# Altium footprint library 8-8控制板1.PcbLib: 26 footprints (part 1 of 2)
Each footprint in its own frame and in the unit in brackets; x right, y up, seen from the top. Pads: shape width x height; smd on the part's side, far side on the other; paste and mask are expansions set on the pad; w line width, h text height; cw(c..) or ccw(c..) is an arc to the next point about the centre after c.
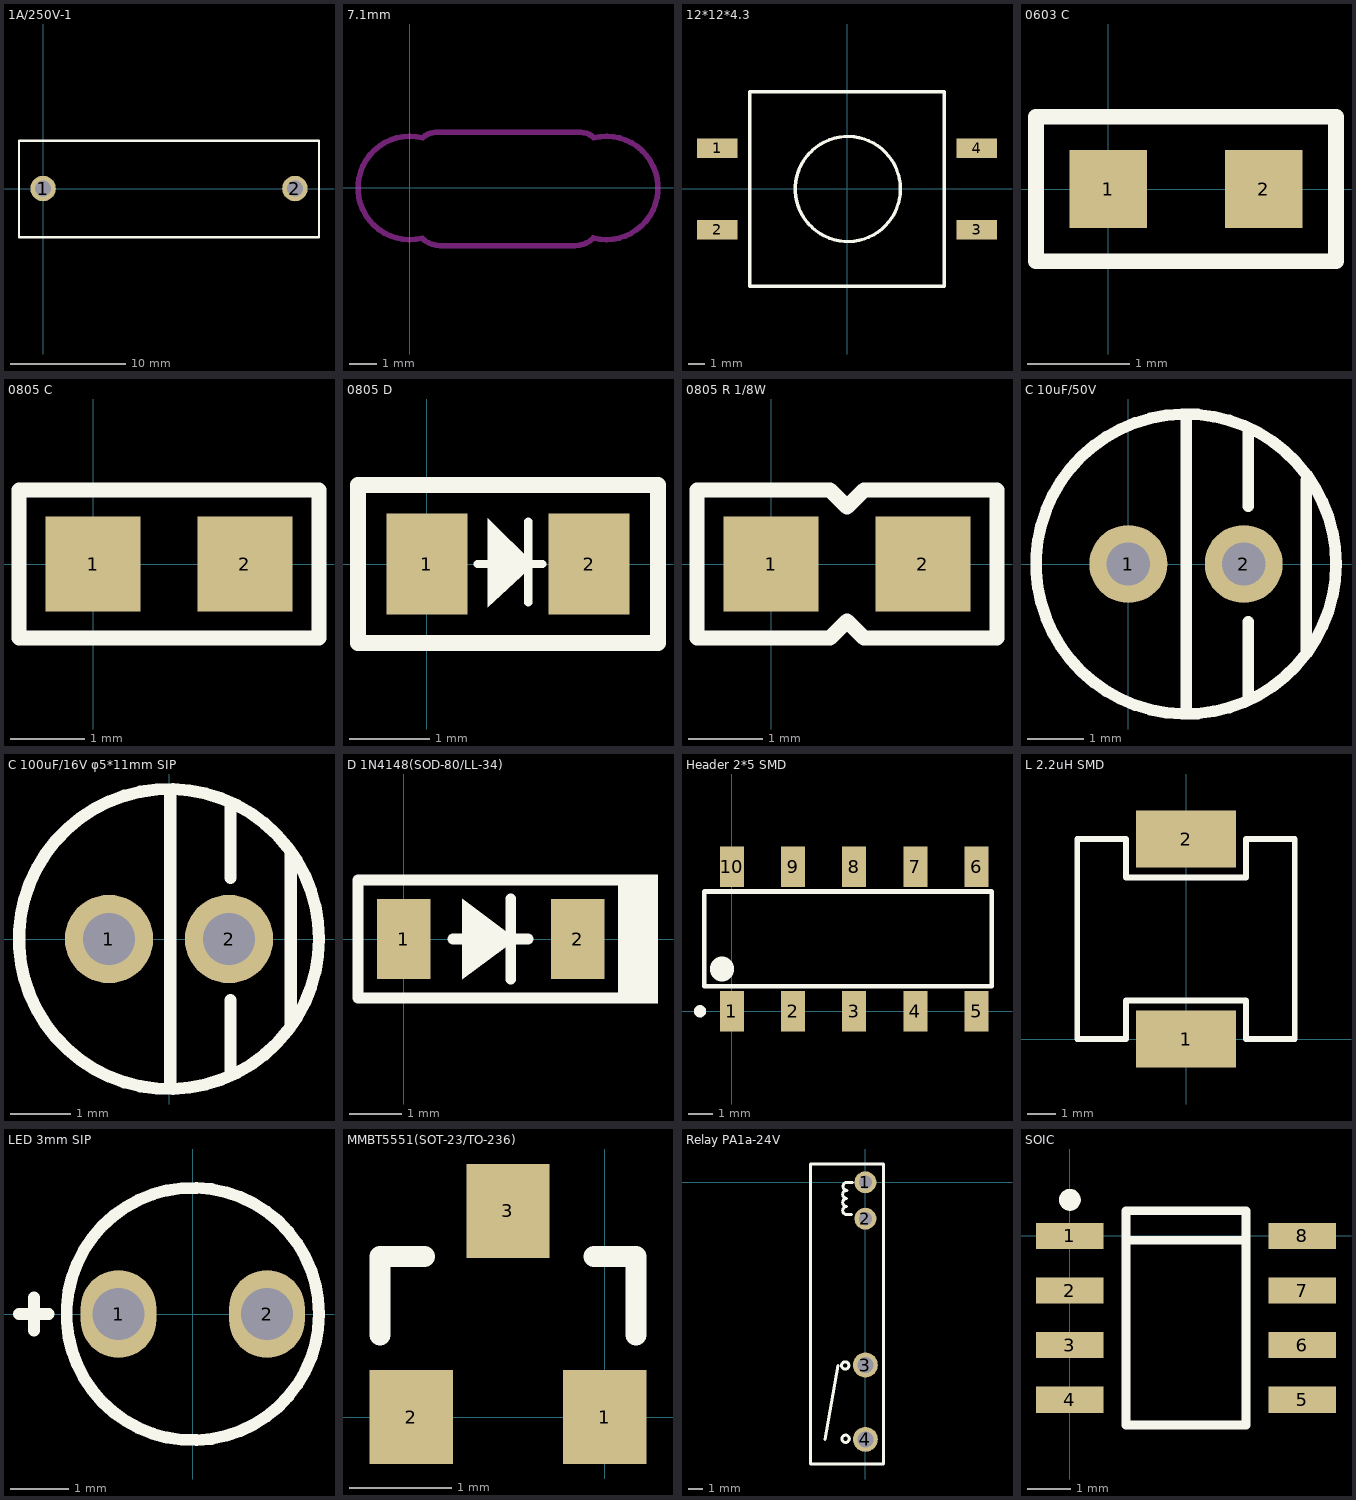
[diagram p0: the footprints below, top view; thin cyan lines are the x and y axes]

## 1A/250V-1 [mil]
pads (2):
  round 87 hole 55: 1(0,0) 2(858,0)
Top Overlay:
  lines w8: -82,-166 -82,163 940,163 940,-166 -82,-166

## 7.1mm [mm]
pads (2):
  round 0 all layers, no hole: 1(0,0) 1(7.1,0)
Keep-Out Layer:
  lines w0.2: 2.019,2.007 2.452,2.007 0.946,2.007 ccw(c0.946,1.327) 0.466,1.808 ccw(c0,0) 0.447,-1.812 ccw(c1.101,-1.159) 1.101,-2.083 2.198,-2.083 5.297,-2.083 ; 2.122,2.007 5.297,2.007 5.449,2.007 ; 2.168,-2.083 2.731,-2.083 ; 4.496,2.007 6.183,2.007 cw(c6.183,1.343) 6.653,1.812 cw(c7.1,0) 6.634,-1.808 cw(c5.97,-1.143) 5.97,-2.083 4.865,-2.083 5.159,-2.083 ; 5.017,2.007 5.331,2.007

## 12*12*4.3 [mm]
pads (4):
  rect 2.5x1.2 smd: 1(-8,2.5) 2(-8,-2.5) 3(8,-2.5) 4(8,2.5)
Top Overlay:
  circle w0.203: c0.051,0 r3.24
  lines w0.2: -5.425,6 5.436,6 6,6 6,-6 ; -5.359,6 -6.014,6 -6,5.986 -6,5.715 -6,-6 5.994,-6

## 0603 C [mil]
pads (2):
  rect 30x30 smd: 1(0,0) 2(60,0)
Top Overlay:
  lines w6: -28,-28 -28,28 88,28 88,-28 -28,-28

## 0805 C [mil]
pads (2):
  rect 50x50 smd: 1(0,0) 2(80,0)
Top Overlay:
  lines w8: -39,-39 -39,39 119,39 119,-39 -39,-39

## 0805 D [mil]
pads (2):
  rect 40x50 smd: 1(0,0) 2(80,0)
Top Overlay:
  region: 30,22.5 53,0 30,-21.38
  lines w4: 25,0 57,0 ; 50,-19 50,21
  lines w8: -34,-39 -34,39 114,39 114,-39 -34,-39

## 0805 R 1/8W [mil]
pads (2):
  rect 50x50 smd: 1(0,0) 2(80,0)
Top Overlay:
  lines w8: -39,-39 -39,39 31,39 40,30 49,39 119,39 119,-39 49,-39 40,-30 31,-39 -39,-39

## C 10uF/50V [mil]
pads (2):
  round 54 hole 30: 1(0,0) 2(80,0)
Top Overlay:
  circle w8: c40,0 r104
  lines w8: 40.24,-103 40.24,103 ; 83,-94 83,-40 ; 83,40 83,94 ; 123.24,-61 123.24,58

## C 100uF/16V φ5*11mm SIP [mil]
pads (2):
  round 58 hole 34: 1(-39.37,0) 2(39.37,0)
Top Overlay:
  circle w8: c0,0 r98.43
  lines w8: 0.87,-98 0.87,98 ; 40.37,-89 40.37,-40 ; 40.37,40 40.37,88 ; 79.87,-56 79.87,57

## D 1N4148(SOD-80/LL-34) [mil]
pads (2):
  rect 40x60 smd: 1(0,0) 2(130,0)
Top Overlay:
  rectangle: 160,-48 190,48
  region: 44,30 84,0 44,-30
  lines w8: 37,0 48,0 ; 80,-30 80,30 ; 80,0 93,0 ; -34,-44 164,-44 164,44 -34,44 -34,-44

## Header 2*5 SMD [mm]
pads (10):
  rect 1x1.7 smd: 1(0,0) 2(2.54,0) 3(5.08,0) 4(7.62,0) 5(10.16,0) 6(10.16,6) 7(7.62,6) 8(5.08,6) 9(2.54,6) 10(0,6)
Top Overlay:
  circle w0.254: c-1.321,0 r0.127
  lines w0.2: -1.15,1.041 -1.15,4.978 10.795,4.978 10.795,1.041 -1.15,1.041
  lines w1: -0.406,1.73 -0.406,1.781

## L 2.2uH SMD [mil]
pads (2):
  rect 138x78 smd: 1(0,0) 2(0,276)
Top Overlay:
  lines w8: -150,0 -83,0 -83,53 83,53 83,-0.02 150,-0.02 150,276 83,276 83,223 -83,223 -83,276 -150,276 -150,0

## LED 3mm SIP [mil]
pads (2):
  oval 51x59 hole 35: 1(-50,0) 2(50,0)
Top Overlay:
  circle w8: c0,0 r85
  lines w8: -117,0 -97,0 ; -107,-11 -107,11

## MMBT5551(SOT-23/TO-236) [mil]
pads (3):
  rect 32x36 smd: 1(0,0) 2(-74,0) 3(-37,79)
Top Overlay:
  lines w8: -86,31.52 -86,61.52 -69,61.52 ; -4,61.52 12,61.52 12,31.52

## Relay PA1a-24V [mil]
pads (4):
  round 60 hole 36: 1(0,0) 2(0,-99.21)
  round 68 hole 44: 3(0,-498.82) 4(0,-701.57)
Top Overlay:
  circle w8: c-55,-500 r10.05
  circle w8: c-54,-700 r10.05
  lines w8: -110,-702 -75,-500 ; -51,-22 ccw(c-51,-33) -62,-33 ccw(c-51,-33) -51,-44 ccw(c-51,-55) -62,-55 ccw(c-51,-55) -51,-66 ccw(c-51,-77) -62,-77 ccw(c-51,-77) -51,-88 -38,-88 ; -50,-22 cw(c-50,-11) -61,-11 cw(c-50,-11) -50,0 -35,0 ; -150.39,-768.9 50,-768.9 50,50 -150.39,50 -150.39,-768.9
3D body: height 497, standoff 0, extent -154.39,-772.9 54,54

## SOIC [mil]
pads (8):
  rect 62x24 smd: 1(0,0) 2(0,-50) 3(0,-100) 4(0,-150) 5(212.6,-150) 6(212.6,-100) 7(212.6,-50) 8(212.6,0)
Top Overlay:
  circle w10: c0,33 r5
  lines w8: 51.3,-4 161.3,-4 ; 51.3,-173 51.3,23 161.3,23 161.3,-173 51.3,-173